# Altium footprint library PcbLib.PcbLib: 4 footprints
Each footprint in its own frame and in the unit in brackets; x right, y up, seen from the top. Pads: shape width x height; smd on the part's side, far side on the other; paste and mask are expansions set on the pad; w line width, h text height; cw(c..) or ccw(c..) is an arc to the next point about the centre after c.
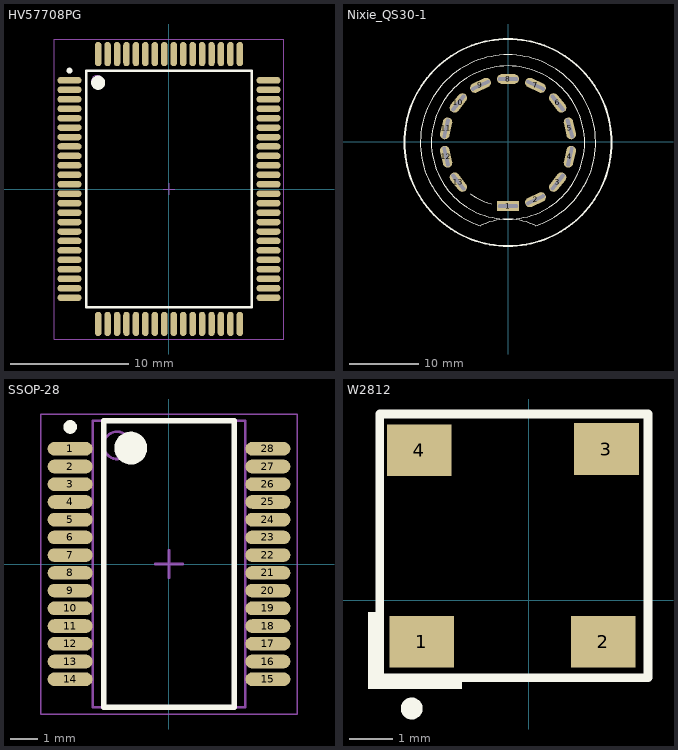
[diagram p0: the footprints below, top view; thin cyan lines are the x and y axes]

## HV57708PG [mm]
pads (80):
  oval 2.05x0.55 smd: 1(-8.4,9.225) 2(-8.4,8.425) 3(-8.4,7.625) 4(-8.4,6.825) 5(-8.4,6.025) 6(-8.4,5.225) 7(-8.4,4.425) 8(-8.4,3.625) 9(-8.4,2.825) 10(-8.4,2.025) 11(-8.4,1.225) 12(-8.4,0.425) 13(-8.4,-0.375) 14(-8.4,-1.175) 15(-8.4,-1.975) 16(-8.4,-2.775) 17(-8.4,-3.575) 18(-8.4,-4.375) 19(-8.4,-5.175) 20(-8.4,-5.975) 21(-8.4,-6.775) 22(-8.4,-7.575) 23(-8.4,-8.375) 24(-8.4,-9.175) 41(8.45,-9.175) 42(8.45,-8.375) 43(8.45,-7.575) 44(8.45,-6.775) 45(8.45,-5.975) 46(8.45,-5.175) 47(8.45,-4.375) 48(8.45,-3.575) 49(8.45,-2.775) 50(8.45,-1.975) 51(8.45,-1.175) 52(8.45,-0.375) 53(8.45,0.425) 54(8.45,1.225) 55(8.45,2.025) 56(8.45,2.825) 57(8.45,3.625) 58(8.45,4.425) 59(8.45,5.225) 60(8.45,6.025) 61(8.45,6.825) 62(8.45,7.625) 63(8.45,8.425) 64(8.45,9.225)
  oval 0.55x2.05 smd: 25(-5.975,-11.4) 26(-5.175,-11.4) 27(-4.375,-11.4) 28(-3.575,-11.4) 29(-2.775,-11.4) 30(-1.975,-11.4) 31(-1.175,-11.4) 32(-0.375,-11.4) 33(0.425,-11.4) 34(1.225,-11.4) 35(2.025,-11.4) 36(2.825,-11.4) 37(3.625,-11.4) 38(4.425,-11.4) 39(5.225,-11.4) 40(6.025,-11.4) 65(6.025,11.45) 66(5.225,11.45) 67(4.425,11.45) 68(3.625,11.45) 69(2.825,11.45) 70(2.025,11.45) 71(1.225,11.45) 72(0.425,11.45) 73(-0.375,11.45) 74(-1.175,11.45) 75(-1.975,11.45) 76(-2.775,11.45) 77(-3.575,11.45) 78(-4.375,11.45) 79(-5.175,11.45) 80(-5.975,11.45)
Top Overlay:
  circle w0.6: c-5.975,9.025 r0.3
  circle w0.25: c-8.4,10.05 r0.125
  lines w0.2: -6.975,-9.975 7.025,-9.975 7.025,10.025 -6.975,10.025 -6.975,-9.975
Mechanical 13:
  circle w0.1: c-6.075,9.125 r0.5
  lines w0.1: -6.975,-9.975 7.025,-9.975 7.025,10.025 -6.975,10.025 -6.975,-9.975
Mechanical 15:
  lines w0.05: -9.675,-12.675 9.725,-12.675 9.725,12.725 -9.675,12.725 -9.675,-12.675
  lines w0.1: -0.475,0.025 0.525,0.025 ; 0.025,-0.475 0.025,0.525
3D body: height 3.4, standoff 0.25, extent -6.975,-9.975 7.025,10.025

## Nixie_QS30-1 [mm] "QS30-1底座插针的封装"
height 7.62
pads (13):
  rect 3.2x1.4 hole 0.5 slot 2.9 at 0 deg: 1(-0.025,-9.276)
  oval 3.2x1.4 hole 0.5 slot 2.9 at 25.71 deg rot 25.71: 2(3.966,-8.365) 9(-4.017,8.213)
  oval 3.2x1.4 hole 0.5 slot 2.9 at 51.43 deg rot 51.43: 3(7.167,-5.812) 10(-7.218,5.66)
  oval 3.2x1.4 hole 0.5 slot 2.9 at 77.14 deg rot 77.14: 4(8.944,-2.123) 11(-8.995,1.971)
  oval 3.2x1.4 hole 0.5 slot 2.9 at 106.06 deg rot 102.86: 5(8.944,1.971)
  oval 3.2x1.4 hole 0.5 slot 2.9 at 128.57 deg rot 128.57: 6(7.167,5.66) 13(-7.218,-5.812)
  oval 3.2x1.4 hole 0.5 slot 2.9 at 154.29 deg rot 154.29: 7(3.966,8.213)
  oval 3.2x1.4 hole 0.5 slot 2.9 at 0 deg: 8(-0.025,9.124)
  oval 3.2x1.4 hole 0.5 slot 2.9 at 102.86 deg rot 102.86: 12(-8.995,-2.123)
Top Overlay:
  circle w0.254: c-0.025,-0.076 r15
  circle w0.127: c-0.025,-0.076 r11.1
  lines w0.127: -5.487,-7.479 ccw(c-0.025,-0.076) -2.467,-8.946 ; -4.013,-12.146 cw(c-0.025,-19.861) 3.963,-12.146 ; -4.011,-12.135 cw(c-0.025,-0.076) 3.961,-12.134
3D body "User Library-NixieTubeAssembly.STEP": height 39.7, standoff -2.1, extent -10.797,-21.853 11.203,19.822

## SSOP-28 [mm] "SOP, 28-Leads, Body 10.20x5.30mm, Pitch 0.65mm, IPC Medium Density"
height 2
pads (28):
  oval 1.65x0.5 smd: 1(-3.625,4.225) 2(-3.625,3.575) 3(-3.625,2.925) 4(-3.625,2.275) 5(-3.625,1.625) 6(-3.625,0.975) 7(-3.625,0.325) 8(-3.625,-0.325) 9(-3.625,-0.975) 10(-3.625,-1.625) 11(-3.625,-2.275) 12(-3.625,-2.925) 13(-3.625,-3.575) 14(-3.625,-4.225) 15(3.625,-4.225) 16(3.625,-3.575) 17(3.625,-2.925) 18(3.625,-2.275) 19(3.625,-1.625) 20(3.625,-0.975) 21(3.625,-0.325) 22(3.625,0.325) 23(3.625,0.975) 24(3.625,1.625) 25(3.625,2.275) 26(3.625,2.925) 27(3.625,3.575) 28(3.625,4.225)
Top Overlay:
  circle w0.25: c-3.625,5.025 r0.125
  circle w0.6: c-1.4,4.25 r0.3
  lines w0.2: -2.4,-5.25 -2.4,5.25 2.4,5.25 2.4,-5.25 -2.4,-5.25
Mechanical 13:
  circle w0.1: c-1.9,4.35 r0.5
  lines w0.1: -2.8,-5.25 -2.8,5.25 2.8,5.25 2.8,-5.25 -2.8,-5.25
Mechanical 15:
  lines w0.05: -4.7,-5.5 -4.7,5.5 4.7,5.5 4.7,-5.5 -4.7,-5.5
  lines w0.1: -0.5,0 0.5,0 ; 0,-0.5 0,0.5
3D body "SOP65P780X200-28N.step": height 2, standoff 0, extent -3.9,-5.25 3.9,5.25

## W2812 [mm]
pads (4):
  rect 1.5x1.2 smd: 1(-2.489,-0.97) 2(1.727,-0.97) 3(1.803,3.505) 4(-2.54,3.48)
Top Overlay:
  circle w0.254: c-2.718,-2.519 r0.127
  rectangle: -3.556,-2.062 -1.549,-1.808
  rectangle: -3.734,-2.062 -3.556,-0.284
  lines w0.2: -3.46,-1.808 2.769,-1.808 2.769,4.318 -3.46,4.318 -3.46,-1.808
3D body "User Library-APA102C.STEP": height 1.55, standoff 0, extent -3.106,-1.255 2.395,3.745